# Altium schematic symbol library Y_XO_4pin.SchLib: 1 symbol
Pins are listed as number, name and electrical type; pins without a type are passive.

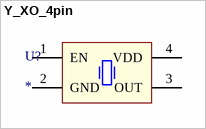
[diagram p0: symbol Y_XO_4pin]

## Y_XO_4pin
designator U?
pins: 1 EN, 2 GND, 3 OUT, 4 VDD